# Altium footprint library H0DR9.PcbLib: 24 footprints (part 2 of 2)
Each footprint in its own frame and in the unit in brackets; x right, y up, seen from the top. Pads: shape width x height; smd on the part's side, far side on the other; paste and mask are expansions set on the pad; w line width, h text height; cw(c..) or ccw(c..) is an arc to the next point about the centre after c.
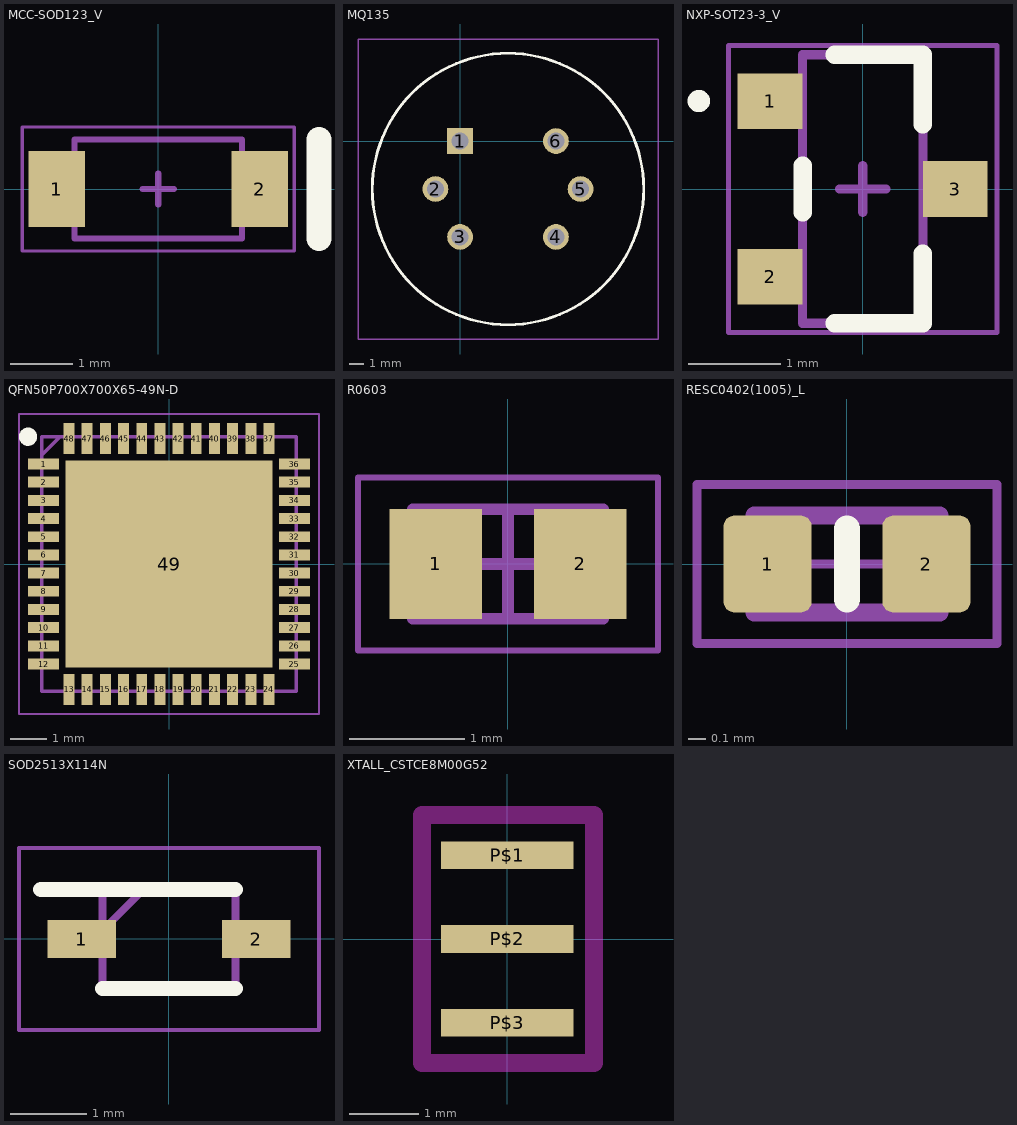
[diagram p1: the footprints below, top view; thin cyan lines are the x and y axes]

## MCC-SOD123_V [mil] "SOD123, 2-Leads, Body 2.7x1.6mm, Height 1.35mm"
height 53.15
pads (2):
  rect 35.98x47.99 smd: 1(-64.5,0) 2(64.5,0)
Top Overlay:
  lines w15.75: 102.16,-31.5 102.16,31.5
Mechanical 13:
  lines w3.94: -53.15,-31.5 -53.15,31.5 53.15,31.5 53.15,-31.5 -53.15,-31.5
Mechanical 15:
  lines w1.97: -86.42,-39.37 -86.42,39.37 86.42,39.37 86.42,-39.37 -86.42,-39.37
  lines w3.94: -9.84,0 9.84,0 ; 0,-9.84 0,9.84
3D body: height 53.15, standoff 0, extent -53.15,-31.5 53.15,31.5
3D body: height 53.19, standoff 53.15, extent 38.58,-31.5 53.15,31.5

## MQ135 [mm]
pads (6):
  rect 1.8x1.8 hole 1.2: 1(0,0)
  round 1.8 hole 1.2: 2(-1.721,-3.359) 3(0,-6.718) 4(6.718,-6.718) 5(8.439,-3.359) 6(6.718,0)
Top Overlay:
  lines w0.2: -6.141,-3.359 cw(c3.359,-3.359) 12.859,-3.359 cw(c3.359,-3.359) -6.141,-3.359
Mechanical 15:
  lines w0.1: -6.141,-3.359 cw(c3.359,-3.359) 12.859,-3.359 cw(c3.359,-3.359) -6.141,-3.359
Mechanical 20:
  lines w0.1: -7.141,-13.859 -7.141,7.141 13.859,7.141 13.859,-13.859 -7.141,-13.859

## NXP-SOT23-3_V [mm] "SOT23, 3-Leads, Body 2.9x1.3mm, Pitch 0.95mm"
height 1.1
pads (3):
  rect 0.7x0.6 smd paste-0.05: 1(-1,0.95) 2(-1,-0.95) 3(1,0)
Top Overlay:
  circle w0.2: c-1.77,0.95 r0.02
  lines w0.2: -0.65,-0.25 -0.65,0.25 ; -0.304,-1.45 0.65,-1.45 0.65,-0.7 ; -0.304,1.45 0.65,1.45 0.65,0.7
Mechanical 13:
  lines w0.1: -0.65,-1.45 -0.65,1.45 0.65,1.45 0.65,-1.45 -0.65,-1.45
Mechanical 15:
  lines w0.05: -1.45,-1.55 1.45,-1.55 1.45,1.55 -1.45,1.55 -1.45,-1.55
  lines w0.1: -0.25,0 0.25,0 ; 0,-0.25 0,0.25
3D body "SOT95P230X110-3L.step": height 1.1, standoff 0, extent -1.3,-1.5 1.3,1.5

## QFN50P700X700X65-49N-D [mm]
height 4.2
pads (49):
  rect 0.85x0.3 smd mask+0: 1(-3.45,2.75) 2(-3.45,2.25) 3(-3.45,1.75) 4(-3.45,1.25) 5(-3.45,0.75) 6(-3.45,0.25) 7(-3.45,-0.25) 8(-3.45,-0.75) 9(-3.45,-1.25) 10(-3.45,-1.75) 11(-3.45,-2.25) 12(-3.45,-2.75) 25(3.45,-2.75) 26(3.45,-2.25) 27(3.45,-1.75) 28(3.45,-1.25) 29(3.45,-0.75) 30(3.45,-0.25) 31(3.45,0.25) 32(3.45,0.75) 33(3.45,1.25) 34(3.45,1.75) 35(3.45,2.25) 36(3.45,2.75)
  rect 0.3x0.85 smd mask+0: 13(-2.75,-3.45) 14(-2.25,-3.45) 15(-1.75,-3.45) 16(-1.25,-3.45) 17(-0.75,-3.45) 18(-0.25,-3.45) 19(0.25,-3.45) 20(0.75,-3.45) 21(1.25,-3.45) 22(1.75,-3.45) 23(2.25,-3.45) 24(2.75,-3.45) 37(2.75,3.45) 38(2.25,3.45) 39(1.75,3.45) 40(1.25,3.45) 41(0.75,3.45) 42(0.25,3.45) 43(-0.25,3.45) 44(-0.75,3.45) 45(-1.25,3.45) 46(-1.75,3.45) 47(-2.25,3.45) 48(-2.75,3.45)
  rect 5.7x5.7 smd mask+0: 49(0,0)
Top Overlay:
  circle w0.25: c-3.875,3.5 r0.125
Mechanical 13:
  lines w0.1: -3.5,3 -3,3.5 ; -3.5,-3.5 3.5,-3.5 3.5,3.5 -3.5,3.5 -3.5,-3.5
Mechanical 15:
  lines w0.05: -4.125,-4.125 4.125,-4.125 4.125,4.125 -4.125,4.125 -4.125,-4.125
3D body "STM32G0B1CEU6.stp": height 0.61, standoff 0, extent -3.556,-3.556 3.556,3.556

## R0603 [mm] "Chip Resistor, 2-Leads, Body 1.55x0.85mm, IPC Medium Density"
height 0.5
pads (2):
  rect 0.8x0.95 smd: 1(-0.625,0) 2(0.625,0)
Mechanical 13:
  lines w0.1: -0.825,-0.475 -0.825,0.475 0.825,0.475 0.825,-0.475 -0.825,-0.475
Mechanical 15:
  lines w0.05: -1.3,-0.75 -1.3,0.75 1.3,0.75 1.3,-0.75 -1.3,-0.75
  lines w0.1: -0.475,0 0.475,0 ; 0,-0.475 0,0.475
3D body: height 0.5, standoff 0, extent -0.525,-0.475 0.525,0.475
3D body: height 0.5, standoff 0, extent -0.825,-0.475 -0.525,0.475
3D body: height 0.5, standoff 0, extent 0.525,-0.475 0.825,0.475

## RESC0402(1005)_L [mm] "Chip Resistor, Body 1.0x0.5mm, IPC High Density"
height 0.4
pads (2):
  rrect25% 0.5x0.55 smd: 1(-0.45,0) 2(0.45,0)
Top Overlay:
  lines w0.15: 0,-0.2 0,0.2
Top Designator:
  text ".Designator" at -1.27,-0.127 h0.6
Top Courtyard:
  lines w0.05: -0.275,0 0.275,0 ; 0,-0.275 0,0.275 ; -0.85,-0.45 0.85,-0.45 0.85,0.45 -0.85,0.45 -0.85,-0.45
Top Assembly:
  lines w0.1: -0.525,-0.275 0.525,-0.275 0.525,0.275 -0.525,0.275 -0.525,-0.275
3D body "RES0402.step": height 0.3, standoff 0, extent -0.5,-0.25 0.5,0.25

## SOD2513X114N [mm]
height 4.2
pads (2):
  rect 0.9x0.5 smd: 1(-1.15,0) 2(1.15,0)
Top Overlay:
  lines w0.2: -1.688,0.65 0.875,0.65 ; -0.875,-0.65 0.875,-0.65
Top Courtyard:
  lines w0.05: -1.975,-1.2 1.975,-1.2 1.975,1.2 -1.975,1.2 -1.975,-1.2
Top 3D Body:
  lines w0.1: -0.875,0.112 -0.338,0.65 ; -0.875,-0.65 0.875,-0.65 0.875,0.65 -0.875,0.65 -0.875,-0.65
3D body "CDSOD323-T03SC.stp": height 1.14, standoff 0, extent -1.272,-0.65 1.272,0.65

## XTALL_CSTCE8M00G52 [mm]
height 4.2
pads (3):
  rect 1.9x0.4 smd: P$1(0,1.2) P$2(0,0) P$3(0,-1.2)
Top Layer keep-out:
  lines w0.254: -1.219,-1.778 -1.219,1.778 1.245,1.778 1.245,-1.778 -1.219,-1.778
3D body "CSTCE8M00G52Z-R0.STEP": height 0.8, standoff 0, extent -0.665,-1.6 0.635,1.6